# Altium footprint library Passive.PcbLib: 17 footprints (part 1 of 2)
Each footprint in its own frame and in the unit in brackets; x right, y up, seen from the top. Pads: shape width x height; smd on the part's side, far side on the other; paste and mask are expansions set on the pad; w line width, h text height; cw(c..) or ccw(c..) is an arc to the next point about the centre after c.
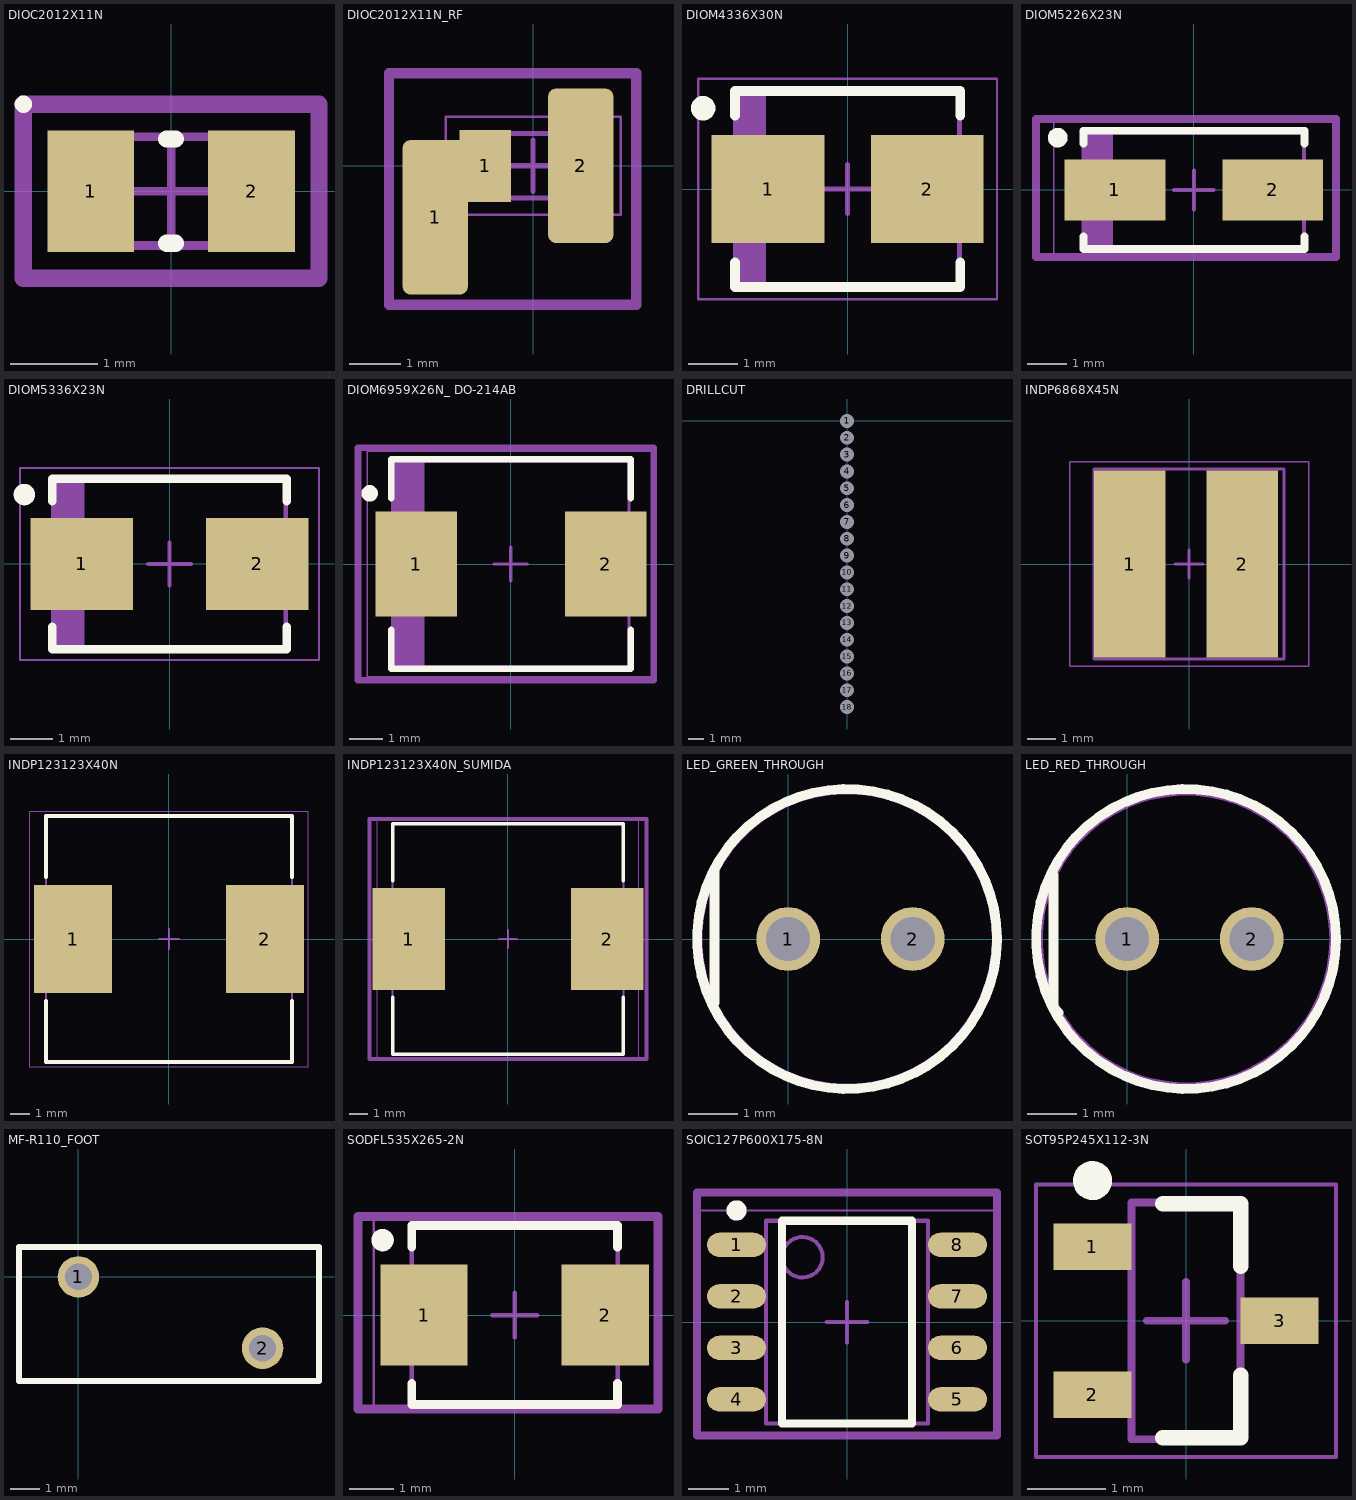
[diagram p0: the footprints below, top view; thin cyan lines are the x and y axes]

## DIOC2012X11N [mm] "Chip Diode, 2-Leads, Body 2.00x1.25mm, IPC Medium Density"
height 1.1
pads (2):
  rect 1x1.4 smd: 1(-0.925,0) 2(0.925,0)
Top Overlay:
  circle w0.1: c-1.7,1 r0.05
  lines w0.2: -0.05,-0.6 0.05,-0.6 ; -0.05,0.6 0.05,0.6
Mechanical 13:
  lines w0.1: -1,-0.625 -1,0.625 1,0.625 1,-0.625 -1,-0.625
Mechanical 15:
  lines w0.05: -1.7,-0.95 -1.7,0.95 1.7,0.95 1.7,-0.95 -1.7,-0.95
  lines w0.1: -0.5,0 0.5,0 ; 0,-0.5 0,0.5
AsmTop:
  lines w0.2: -1.7,-1 1.7,-1 1.7,1 -1.7,1 -1.7,-1
  text ".Comment" at -1.5,-0.3 h0.8
3D body: height 1.1, standoff 0, extent -0.5,-0.625 0.5,0.625
3D body: height 1.1, standoff 0, extent -1,-0.625 -0.5,0.625
3D body: height 1.1, standoff 0, extent 0.5,-0.625 1,0.625

## DIOC2012X11N_RF [mm] "Chip Diode, 2-Leads, Body 2.00x1.25mm, IPC Medium Density"
height 1.1
pads (4):
  rrect25% 1.27x3 smd: 1(-1.9,-1) 2(0.925,0)
  rect 1x1.4 smd: 1(-0.925,0) 2(0.925,0)
Mechanical 13:
  lines w0.1: -1,-0.625 1,-0.625 1,0.625 -1,0.625 -1,-0.625
Mechanical 15:
  lines w0.05: -1.7,-0.95 1.7,-0.95 1.7,0.95 -1.7,0.95 -1.7,-0.95
  lines w0.1: -0.5,0 0.5,0 ; 0,-0.5 0,0.5
AsmTop:
  lines w0.2: -2.8,-2.7 -2.8,1.8 2,1.8 2,-2.7 -2.8,-2.7
  text ".Comment" at -1,1.6 h0.8
3D body: height 1.1, standoff 0, extent 0.5,-0.625 1,0.625
3D body: height 1.1, standoff 0, extent -1,-0.625 -0.5,0.625
3D body: height 1.1, standoff 0, extent -0.5,-0.625 0.5,0.625

## DIOM4336X30N [mm] "Molded Diode, 2-Leads, Body 4.31x3.62mm, IPC Medium Density"
height 2.95
pads (2):
  rect 2.3x2.2 smd: 1(-1.625,0) 2(1.625,0)
Top Overlay:
  circle w0.25: c-2.95,1.65 r0.125
  lines w0.2: -2.3,-1.5 -2.3,-2 2.3,-2 2.3,-1.5 ; -2.3,1.5 -2.3,2 2.3,2 2.3,1.5
Mechanical 13:
  rectangle: -2.285,-1.97 -1.67,1.97
  lines w0.1: -2.285,-1.97 -2.285,1.97 2.285,1.97 2.285,-1.97 -2.285,-1.97
Mechanical 15:
  lines w0.05: -3.05,-2.25 -3.05,2.25 3.05,2.25 3.05,-2.25 -3.05,-2.25
  lines w0.1: -0.5,0 0.5,0 ; 0,-0.5 0,0.5
3D body: height 2.95, standoff 0, extent -2.285,-1.97 2.285,1.97

## DIOM5226X23N [mm] "Molded Diode, 2-Leads, Body 5.19x2.60mm, IPC Medium Density"
height 2.3
pads (2):
  rect 2.55x1.55 smd: 1(-2,0) 2(2,0)
Top Overlay:
  circle w0.25: c-3.45,1.325 r0.125
  lines w0.2: -2.8,-1.175 -2.8,-1.5 2.8,-1.5 2.8,-1.175 ; -2.8,1.175 -2.8,1.5 2.8,1.5 2.8,1.175
Mechanical 13:
  rectangle: -2.795,-1.46 -2.043,1.46
  lines w0.1: -2.795,-1.46 2.795,-1.46 2.795,1.46 -2.795,1.46 -2.795,-1.46
Mechanical 15:
  lines w0.05: -3.55,-1.75 3.55,-1.75 3.55,1.75 -3.55,1.75 -3.55,-1.75
  lines w0.1: -0.5,0 0.5,0 ; 0,-0.5 0,0.5
AsmTop:
  lines w0.2: -4,-1.7 3.6,-1.7 3.6,1.8 -4,1.8 -4,-1.7
  text ".Comment" at -3.5,-0.5 h0.8
3D body: height 2.3, standoff 0, extent -2.795,-1.46 2.795,1.46

## DIOM5336X23N [mm] "Molded Diode, 2-Leads, Body 5.33x3.63mm, IPC Medium Density"
height 2.28
pads (2):
  rect 2.4x2.15 smd: 1(-2.05,0) 2(2.05,0)
Top Overlay:
  circle w0.25: c-3.4,1.625 r0.125
  lines w0.2: -2.75,-1.475 -2.75,-2 2.75,-2 2.75,-1.475 ; -2.75,1.475 -2.75,2 2.75,2 2.75,1.475
Mechanical 13:
  rectangle: -2.72,-1.975 -1.988,1.975
  lines w0.1: -2.72,-1.975 2.72,-1.975 2.72,1.975 -2.72,1.975 -2.72,-1.975
Mechanical 15:
  lines w0.05: -3.5,-2.25 3.5,-2.25 3.5,2.25 -3.5,2.25 -3.5,-2.25
  lines w0.1: -0.5,0 0.5,0 ; 0,-0.5 0,0.5
3D body: height 2.28, standoff 0, extent -2.72,-1.975 2.72,1.975

## DIOM6959X26N_ DO-214AB [mm] "Molded Diode, 2-Leads, Body 6.85x5.90mm, IPC Medium Density"
height 2.62
pads (2):
  rect 2.45x3.15 smd: 1(-2.85,0) 2(2.85,0)
Top Overlay:
  circle w0.25: c-4.25,2.125 r0.125
  lines w0.2: -3.6,-1.975 -3.6,-3.15 3.6,-3.15 3.6,-1.975 ; -3.6,1.975 -3.6,3.15 3.6,3.15 3.6,1.975
Mechanical 13:
  rectangle: -3.555,-3.11 -2.599,3.11
  lines w0.1: -3.555,-3.11 3.555,-3.11 3.555,3.11 -3.555,3.11 -3.555,-3.11
Mechanical 15:
  lines w0.05: -4.325,-3.4 4.325,-3.4 4.325,3.4 -4.325,3.4 -4.325,-3.4
  lines w0.1: -0.5,0 0.5,0 ; 0,-0.5 0,0.5
AsmTop:
  lines w0.2: -4.6,-3.5 4.3,-3.5 4.3,3.5 -4.6,3.5 -4.6,-3.5
  text ".Comment" at -3.6,-0.3 h0.8
3D body: height 2.62, standoff 0, extent -3.555,-3.11 3.555,3.11

## DRILLCUT [mm]
pads (18):
  round 0.8 hole 0.9: 1(0,0) 2(0,-1.1) 3(0,-2.2) 4(0,-3.3) 5(0,-4.4) 6(0,-5.5) 7(0,-6.6) 8(0,-7.7) 9(0,-8.8) 10(0,-9.9) 11(0,-11) 12(0,-12.1) 13(0,-13.2) 14(0,-14.3) 15(0,-15.4) 16(0,-16.5) 17(0,-17.6) 18(0,-18.7)

## INDP6868X45N [mm] "Precision Wire Wound Inductor, 2-Leads, Body 6.80x6.80mm, IPC Medium Density"
height 4.5
pads (2):
  rect 2.55x6.7 smd: 1(-2.125,0) 2(1.905,0)
Mechanical 13:
  lines w0.1: -3.4,-3.4 3.4,-3.4 3.4,3.4 -3.4,3.4 -3.4,-3.4
Mechanical 15:
  lines w0.05: -4.275,-3.65 4.275,-3.65 4.275,3.65 -4.275,3.65 -4.275,-3.65
  lines w0.1: -0.5,0 0.5,0 ; 0,-0.5 0,0.5
3D body: height 4.5, standoff 0, extent -3.4,-3.4 3.4,3.4

## INDP123123X40N [mm] "Precision Wire Wound Inductor, 2-Leads, Body 12.35x12.35mm, IPC Medium Density"
height 4
pads (2):
  rect 3.95x5.5 smd: 1(-4.875,0) 2(4.875,0)
Top Overlay:
  lines w0.2: -6.25,-3.15 -6.25,-6.25 6.25,-6.25 6.25,-3.15 ; -6.25,3.15 -6.25,6.25 6.25,6.25 6.25,3.15
Mechanical 13:
  lines w0.1: -6.25,-6.25 -6.25,6.25 6.25,6.25 6.25,-6.25 -6.25,-6.25
Mechanical 15:
  lines w0.05: -7.075,-6.5 -7.075,6.5 7.075,6.5 7.075,-6.5 -7.075,-6.5
  lines w0.1: -0.5,0 0.5,0 ; 0,-0.5 0,0.5
3D body: height 4, standoff 0, extent -6.25,-6.25 6.25,6.25

## INDP123123X40N_SUMIDA [mm] "Precision Wire Wound Inductor, 2-Leads, Body 12.35x12.35mm, IPC Medium Density"
height 4
pads (2):
  rect 3.95x5.5 smd: 1(-5.375,0) 2(5.375,0)
Top Overlay:
  lines w0.2: -6.25,-3.15 -6.25,-6.25 6.25,-6.25 6.25,-3.15 ; -6.25,3.15 -6.25,6.25 6.25,6.25 6.25,3.15
Mechanical 13:
  lines w0.1: -6.25,-6.25 6.25,-6.25 6.25,6.25 -6.25,6.25 -6.25,-6.25
Mechanical 15:
  lines w0.05: -7.075,-6.5 7.075,-6.5 7.075,6.5 -7.075,6.5 -7.075,-6.5
  lines w0.1: -0.5,0 0.5,0 ; 0,-0.5 0,0.5
AsmTop:
  lines w0.2: -7.5,-6.5 -7.5,6.5 7.5,6.5 7.5,-6.5 -7.5,-6.5
  text ".Comment" at -7,-0.4 h0.8
3D body: height 4, standoff 0, extent -6.25,-6.25 6.25,6.25

## LED_GREEN_THROUGH [mm] "ThroughHole"
pads (2):
  round 1.3 hole 0.9: 1(0,0) 2(2.54,0)
Top Overlay:
  circle w0.2: c1.2,0 r3.059
  lines w0.2: -1.5,-1.3 -1.5,1.4
AsmTop:
  circle w0.2: c1.2,0 r3.053
  text ".Comment" at -1.3,0.7 h0.8
3D body "THROUGH_LED_GREEN.STEP": height 6, standoff -9.25, extent -1.2,-2.95 4.25,2.95

## LED_RED_THROUGH [mm] "ThroughHole"
pads (2):
  round 1.3 hole 0.9: 1(0,0) 2(2.54,0)
Top Overlay:
  circle w0.2: c1.2,0 r3.059
  lines w0.2: -1.5,1.3 -1.5,-1.4 -1.4,-1.5
AsmTop:
  circle w0.2: c1.2,0 r3.023
  text ".Comment" at -1.3,0.8 h0.8
3D body "THROUGH_LED_RED.STEP": height 8.25, standoff -7, extent -1.2,-2.95 4.25,2.95

## MF-R110_FOOT [mm]
pads (2):
  round 1.4 hole 0.9: 1(0,0) 2(6.2,-2.4)
Top Overlay:
  lines w0.2: -2,-3.5 8.1,-3.5 8.1,1 -2,1 -2,-3.5
AsmTop:
  lines w0.2: -2,-3.5 -2,1 8.1,1 8.1,-3.5 -2,-3.5
  text ".Comment" at -0.9,-1.8 h0.8
3D body "MF-R110.STEP": height 12.95, standoff -8.65, extent -1.35,-2.7 7.55,0.3

## SODFL535X265-2N [mm] "SODFL, 2-Leads, Body 3.63x5.35mm, IPC Medium Density"
height 2.65
pads (2):
  rect 1.95x2.25 smd: 1(-2.025,0) 2(2.025,0)
Top Overlay:
  circle w0.25: c-2.95,1.675 r0.125
  lines w0.2: -2.3,-1.525 -2.3,-2 2.3,-2 2.3,-1.525 ; -2.3,1.525 -2.3,2 2.3,2 2.3,1.525
Mechanical 13:
  lines w0.1: -2.3,-1.975 2.3,-1.975 2.3,1.975 -2.3,1.975 -2.3,-1.975
Mechanical 15:
  lines w0.05: -3.15,-2.15 3.15,-2.15 3.15,2.15 -3.15,2.15 -3.15,-2.15
  lines w0.1: -0.5,0 0.5,0 ; 0,-0.5 0,0.5
AsmTop:
  lines w0.2: -3.5,-2.1 -3.5,2.2 3.2,2.2 3.2,-2.1 -3.5,-2.1
  text ".Comment" at -3,-0.2 h0.8
3D body: height 2.65, standoff 0, extent -2.3,-1.975 2.3,1.975

## SOIC127P600X175-8N [mm] "SOIC, 8-Leads, Body 4.90x3.90mm, Pitch 1.27mm, IPC Medium Density"
height 1.75
pads (8):
  oval 1.45x0.6 smd: 1(-2.725,1.905) 2(-2.725,0.635) 3(-2.725,-0.635) 4(-2.725,-1.905) 5(2.725,-1.905) 6(2.725,-0.635) 7(2.725,0.635) 8(2.725,1.905)
Top Overlay:
  circle w0.25: c-2.725,2.755 r0.125
  lines w0.2: -1.6,-2.5 -1.6,2.5 1.6,2.5 1.6,-2.5 -1.6,-2.5
Mechanical 13:
  circle w0.1: c-1.1,1.6 r0.5
  lines w0.1: -2,-2.5 -2,2.5 2,2.5 2,-2.5 -2,-2.5
Mechanical 15:
  lines w0.05: -3.7,-2.75 -3.7,2.75 3.7,2.75 3.7,-2.75 -3.7,-2.75
  lines w0.1: -0.5,0 0.5,0 ; 0,-0.5 0,0.5
AsmTop:
  lines w0.2: -3.7,-2.8 3.7,-2.8 3.7,3.2 -3.7,3.2 -3.7,-2.8
  text ".Comment" at -3.1,-0.1 h0.8
3D body: height 1.75, standoff 0.25, extent -2,-2.5 2,2.5

## SOT95P245X112-3N [mm] "SOT23, 3-Leads, Body 2.92x2.45mm, Pitch 0.95mm, IPC Medium Density"
height 1.12
pads (3):
  rect 1x0.6 smd: 1(-1.2,0.95) 2(-1.2,-0.95) 3(1.2,0)
Top Overlay:
  circle w0.25: c-1.2,1.8 r0.125
  lines w0.2: -0.3,-1.5 0.7,-1.5 0.7,-0.7 ; -0.3,1.5 0.7,1.5 0.7,0.7
Mechanical 13:
  lines w0.1: -0.7,-1.52 0.7,-1.52 0.7,1.52 -0.7,1.52 -0.7,-1.52
Mechanical 15:
  lines w0.05: -1.925,-1.75 1.925,-1.75 1.925,1.75 -1.925,1.75 -1.925,-1.75
  lines w0.1: -0.5,0 0.5,0 ; 0,-0.5 0,0.5
3D body: height 1.12, standoff 0.1, extent -0.7,-1.52 0.7,1.52